# EAGLE library part LF347D (library Texas LF347)
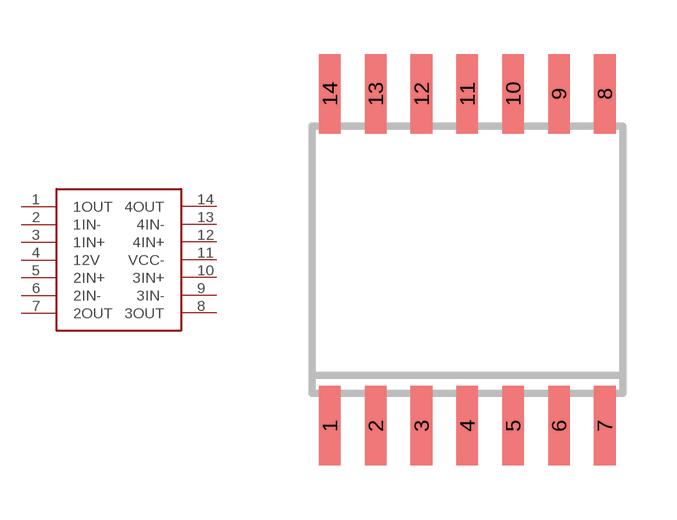
[diagram p0: symbol with the pads of SO14; footprint SO14]

Designator prefix IC

## LF347D  [SO14]
1  1OUT
2  1IN-
3  1IN+
4  12V
5  2IN+
6  2IN-
7  2OUT
8  3OUT
9  3IN-
10  3IN+
11  VCC-
12  4IN+
13  4IN-
14  4OUT

## Footprint SO14 (pad centres in mm)
smd 0.6 x 2.2: 1 -3.81,-4.6; 2 -2.54,-4.6; 3 -1.27,-4.6; 4 0,-4.6; 5 1.27,-4.6; 6 2.54,-4.6; 7 3.81,-4.6; 8 3.81,4.6; 9 2.54,4.6; 10 1.27,4.6; 11 0,4.6; 12 -1.27,4.6; 13 -2.54,4.6; 14 -3.81,4.6